# EAGLE library part LT3518 (library PowerProducts)
LT-Spice library generated with : ltspice.ulp from: D:/Program Files (x86)/LTC/LTspiceIV/lib/sym/PowerProducts/LT3592*.asy at 07.10.2012 16:20:52
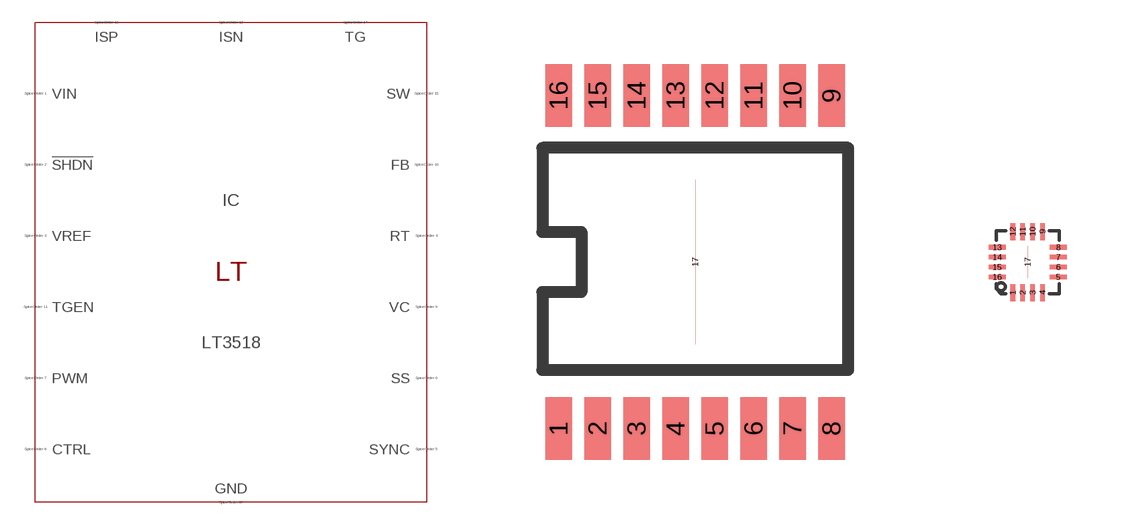
[diagram p0: symbol with the pads of TSSOP16BA(FE); footprints TSSOP16BA(FE), QFN16(UF)]

Designator prefix IC

## LT3518 (SPICEMODEL: LT3518.lib; SPICEPREFIX: X; VALUE2: LT3518)  [TSSOP16BA(FE)]
1  VIN  pas
2  !SHDN  pas
3  VREF  pas
4  RT  pas
5  SYNC  pas
6  SS  pas
7  PWM  pas
8  CTRL  pas
9  VC  pas
10  FB  pas
11  TGEN  pas
12  ISN  pas
13  ISP  pas
14  TG  pas
15  SW  pas
16  SW  pas
17  GND  pas

## LT3518UF (SPICEMODEL: LT1762.lib; SPICEPREFIX: X; VALUE2: LT1762)  [QFN16(UF)]
1  SW  pas
2  SW  pas
3  VIN  pas
4  !SHDN  pas
5  VREF  pas
6  RT  pas
7  SYNC  pas
8  SS  pas
9  PWM  pas
10  CTRL  pas
11  VC  pas
12  FB  pas
13  TGEN  pas
14  ISN  pas
15  ISP  pas
16  TG  pas
17  GND  pas

## Footprint TSSOP16BA(FE) (pad centres in mm)
Package generated from: TSSOP16BA(FE).asc (!PADS-POWERPCB-V5.0-BASIC! DESIGN DATABASE ASCII FILE 1.0) with :import-pads-powerpcb-v5.ulp Version 1.0.1 at 04.10.2012 14:11:39
smd 0.66 x 1.575: 1 -3.413,-4.162; 2 -2.438,-4.162; 3 -1.462,-4.162; 4 -0.487,-4.162; 5 0.487,-4.162; 6 1.462,-4.162; 7 2.438,-4.162; 8 3.413,-4.162; 9 3.413,4.162; 10 2.438,4.162; 11 1.462,4.162; 12 0.487,4.162; 13 -0.487,4.162; 14 -1.462,4.162; 15 -2.438,4.162; 16 -3.413,4.162
smd 0 x 4.11: 17 0,0

## Footprint QFN16(UF) (pad centres in mm)
Package generated from: QFN16(UF).asc (!PADS-POWERPCB-V9.3-BASIC! DESIGN DATABASE ASCII FILE 1.0) with :import-pads-powerpcb-v5.ulp Version 1.0.1 at 04.10.2012 14:11:23
smd 0.116 x 0.426: 1 -0.371,-0.764; 2 -0.124,-0.764; 3 0.124,-0.764; 4 0.371,-0.764; 9 0.371,0.764; 10 0.124,0.764; 11 -0.124,0.764; 12 -0.371,0.764
smd 0.426 x 0.116: 5 0.764,-0.371; 6 0.764,-0.124; 7 0.764,0.124; 8 0.764,0.371; 13 -0.764,0.371; 14 -0.764,0.124; 15 -0.764,-0.124; 16 -0.764,-0.371
smd 0 x 0.819: 17 0,0